# Altium schematic symbol library MCP4821-E_SN.SchLib: 1 symbol
Pins are listed as number, name and electrical type; pins without a type are passive.

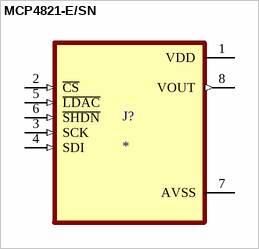
[diagram p0: symbol MCP4821-E/SN]

## MCP4821-E/SN
designator J?
MP: MCP4821-E/SN; MF: {'manufacturer': u'Microchip'}; Price: None; Availability: Unavailable; Value: *; Package: None
footprint SOIC127P600X175-8N
pins: 1 VDD (power), 2 ~{CS} (in), 3 SCK (in), 4 SDI (in), 5 ~{LDAC} (in), 6 ~{SHDN} (in), 7 AVSS (power), 8 VOUT (out)